# Altium footprint library Mounting_Wuerth.PcbLib: 191 footprints (part 10 of 12)
Each footprint in its own frame and in the unit in brackets; x right, y up, seen from the top. Pads: shape width x height; smd on the part's side, far side on the other; paste and mask are expansions set on the pad; w line width, h text height; cw(c..) or ccw(c..) is an arc to the next point about the centre after c.
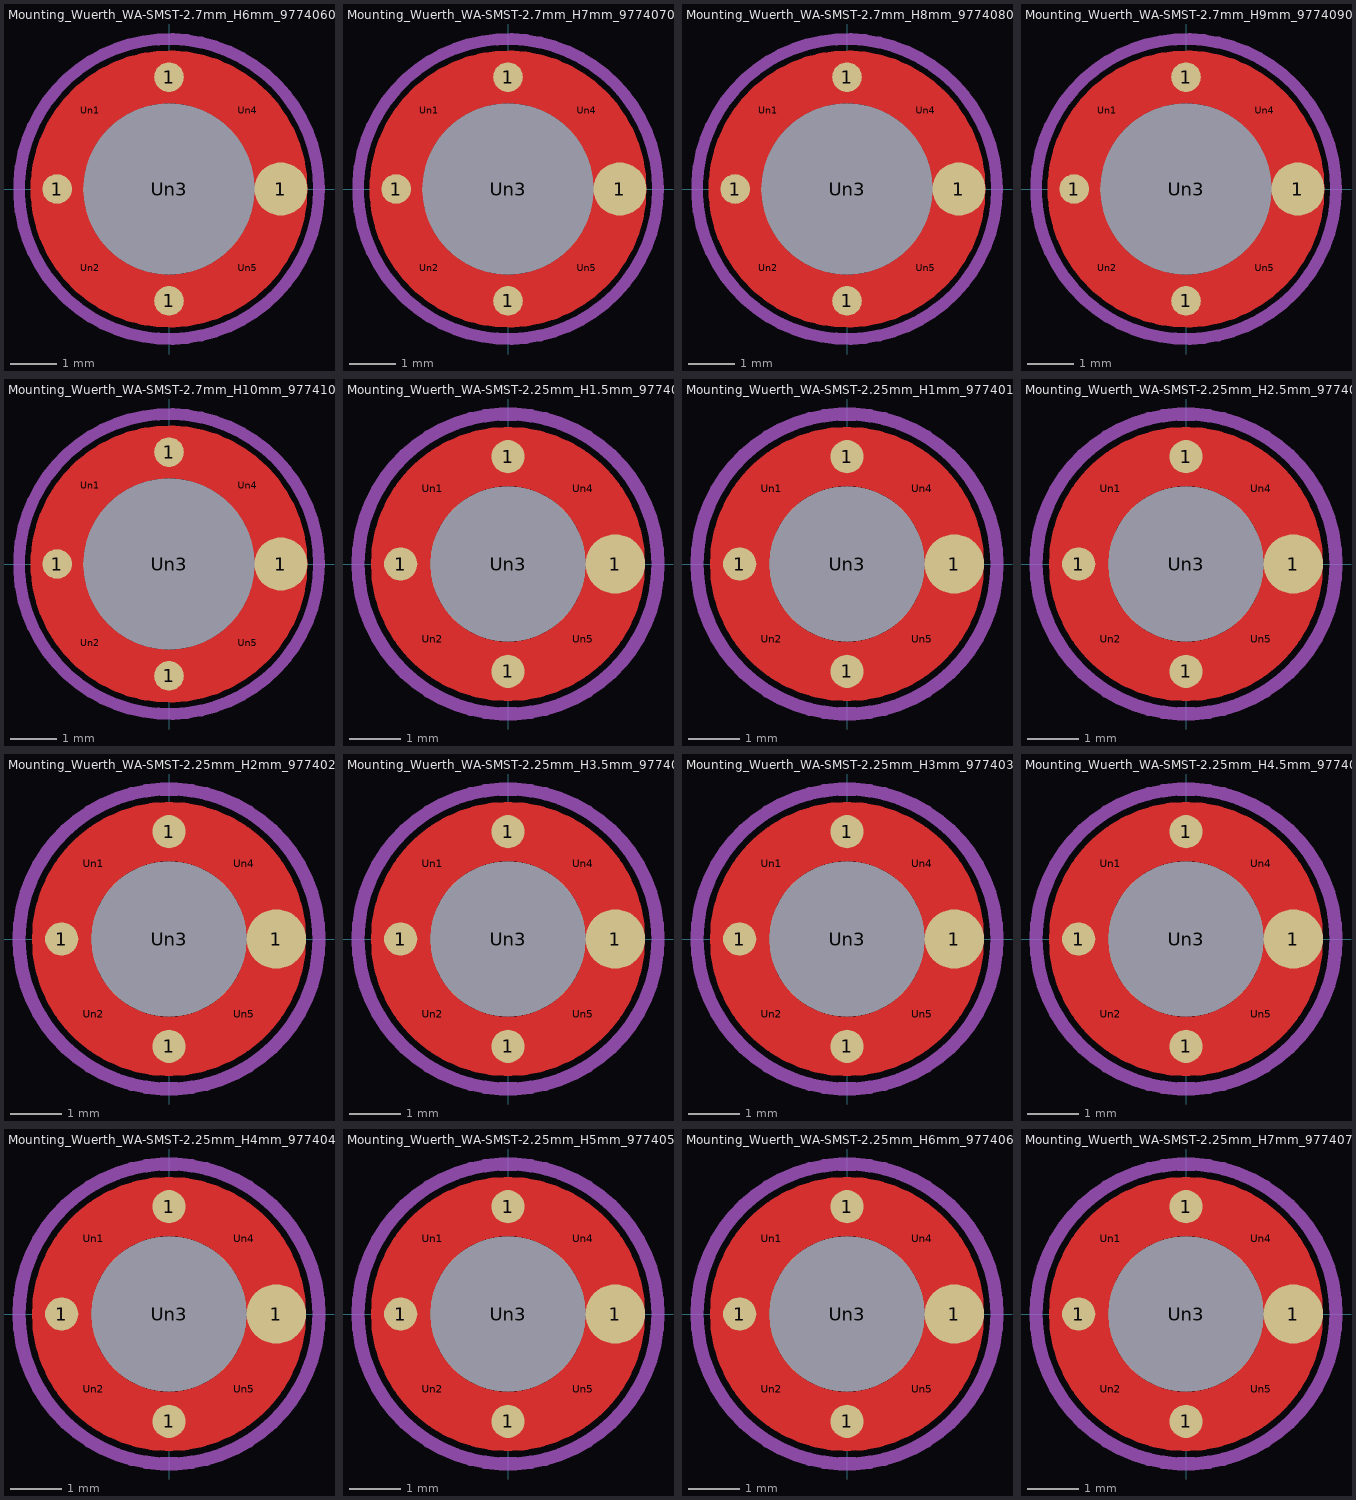
[diagram p9: the footprints below, top view; thin cyan lines are the x and y axes]

## Mounting_Wuerth_WA-SMST-2.7mm_H6mm_9774060951 [mm]
pads (9):
  round 0.642 smd: 1(-2.425,0) 1(0,-2.425) 1(0,2.425)
  round 1.15 smd: 1(2.425,0)
  round 0.51 on Top Paste: Un1(-1.704,1.704) Un2(-1.704,-1.704) Un4(1.704,1.704) Un5(1.704,-1.704)
  round 3.7 hole 3.7: Un3(0,0)
F.Cu:
  circle w1.15: c0,0 r2.425
F.Paste:
  lines w0.2: -2.788,-0.425 -1.954,-0.425 ; -2.788,0.425 -1.954,0.425 ; -0.425,-2.788 -0.425,-1.954 ; -0.425,1.954 -0.425,2.788 ; 0.425,-2.788 0.425,-1.954 ; 0.425,1.954 0.425,2.788 ; 1.954,-0.425 2.788,-0.425 ; 1.954,0.425 2.788,0.425
F.Mask:
  circle w1.15: c0,0 r2.425
Top Assembly:
  circle w0.254: c0,0 r2.55
  text "'.Designator'" at -4.047,-0.84 h1
Top Courtyard:
  circle w0.254: c0,0 r3.25
Top Designator:
  text ".Designator" at -7.768,-0.508 h1.52
3D body "Mounting_Wuerth_WA-SMST-2.7mm_H6mm_9774060951.step": height 6, standoff -1.4, extent -2.55,-2.547 2.55,2.547

## Mounting_Wuerth_WA-SMST-2.7mm_H7mm_9774070951 [mm]
pads (9):
  round 0.642 smd: 1(-2.425,0) 1(0,-2.425) 1(0,2.425)
  round 1.15 smd: 1(2.425,0)
  round 0.51 on Top Paste: Un1(-1.704,1.704) Un2(-1.704,-1.704) Un4(1.704,1.704) Un5(1.704,-1.704)
  round 3.7 hole 3.7: Un3(0,0)
F.Cu:
  circle w1.15: c0,0 r2.425
F.Paste:
  lines w0.2: -2.788,-0.425 -1.954,-0.425 ; -2.788,0.425 -1.954,0.425 ; -0.425,-2.788 -0.425,-1.954 ; -0.425,1.954 -0.425,2.788 ; 0.425,-2.788 0.425,-1.954 ; 0.425,1.954 0.425,2.788 ; 1.954,-0.425 2.788,-0.425 ; 1.954,0.425 2.788,0.425
F.Mask:
  circle w1.15: c0,0 r2.425
Top Assembly:
  circle w0.254: c0,0 r2.55
  text "'.Designator'" at -4.047,-0.84 h1
Top Courtyard:
  circle w0.254: c0,0 r3.25
Top Designator:
  text ".Designator" at -7.768,-0.508 h1.52
3D body "Mounting_Wuerth_WA-SMST-2.7mm_H7mm_9774070951.step": height 7, standoff -1.4, extent -2.55,-2.547 2.55,2.547

## Mounting_Wuerth_WA-SMST-2.7mm_H8mm_9774080951 [mm]
pads (9):
  round 0.642 smd: 1(-2.425,0) 1(0,-2.425) 1(0,2.425)
  round 1.15 smd: 1(2.425,0)
  round 0.51 on Top Paste: Un1(-1.704,1.704) Un2(-1.704,-1.704) Un4(1.704,1.704) Un5(1.704,-1.704)
  round 3.7 hole 3.7: Un3(0,0)
F.Cu:
  circle w1.15: c0,0 r2.425
F.Paste:
  lines w0.2: -2.788,-0.425 -1.954,-0.425 ; -2.788,0.425 -1.954,0.425 ; -0.425,-2.788 -0.425,-1.954 ; -0.425,1.954 -0.425,2.788 ; 0.425,-2.788 0.425,-1.954 ; 0.425,1.954 0.425,2.788 ; 1.954,-0.425 2.788,-0.425 ; 1.954,0.425 2.788,0.425
F.Mask:
  circle w1.15: c0,0 r2.425
Top Assembly:
  circle w0.254: c0,0 r2.55
  text "'.Designator'" at -4.047,-0.84 h1
Top Courtyard:
  circle w0.254: c0,0 r3.25
Top Designator:
  text ".Designator" at -7.768,-0.508 h1.52
3D body "Mounting_Wuerth_WA-SMST-2.7mm_H8mm_9774080951.step": height 8, standoff -1.4, extent -2.55,-2.547 2.55,2.547

## Mounting_Wuerth_WA-SMST-2.7mm_H9mm_9774090951 [mm]
pads (9):
  round 0.642 smd: 1(-2.425,0) 1(0,-2.425) 1(0,2.425)
  round 1.15 smd: 1(2.425,0)
  round 0.51 on Top Paste: Un1(-1.704,1.704) Un2(-1.704,-1.704) Un4(1.704,1.704) Un5(1.704,-1.704)
  round 3.7 hole 3.7: Un3(0,0)
F.Cu:
  circle w1.15: c0,0 r2.425
F.Paste:
  lines w0.2: -2.788,-0.425 -1.954,-0.425 ; -2.788,0.425 -1.954,0.425 ; -0.425,-2.788 -0.425,-1.954 ; -0.425,1.954 -0.425,2.788 ; 0.425,-2.788 0.425,-1.954 ; 0.425,1.954 0.425,2.788 ; 1.954,-0.425 2.788,-0.425 ; 1.954,0.425 2.788,0.425
F.Mask:
  circle w1.15: c0,0 r2.425
Top Assembly:
  circle w0.254: c0,0 r2.55
  text "'.Designator'" at -4.047,-0.84 h1
Top Courtyard:
  circle w0.254: c0,0 r3.25
Top Designator:
  text ".Designator" at -7.768,-0.508 h1.52
3D body "Mounting_Wuerth_WA-SMST-2.7mm_H9mm_9774090951.step": height 9, standoff -1.4, extent -2.55,-2.547 2.55,2.547

## Mounting_Wuerth_WA-SMST-2.7mm_H10mm_9774100951 [mm]
pads (9):
  round 0.642 smd: 1(-2.425,0) 1(0,-2.425) 1(0,2.425)
  round 1.15 smd: 1(2.425,0)
  round 0.51 on Top Paste: Un1(-1.704,1.704) Un2(-1.704,-1.704) Un4(1.704,1.704) Un5(1.704,-1.704)
  round 3.7 hole 3.7: Un3(0,0)
F.Cu:
  circle w1.15: c0,0 r2.425
F.Paste:
  lines w0.2: -2.788,-0.425 -1.954,-0.425 ; -2.788,0.425 -1.954,0.425 ; -0.425,-2.788 -0.425,-1.954 ; -0.425,1.954 -0.425,2.788 ; 0.425,-2.788 0.425,-1.954 ; 0.425,1.954 0.425,2.788 ; 1.954,-0.425 2.788,-0.425 ; 1.954,0.425 2.788,0.425
F.Mask:
  circle w1.15: c0,0 r2.425
Top Assembly:
  circle w0.254: c0,0 r2.55
  text "'.Designator'" at -4.047,-0.84 h1
Top Courtyard:
  circle w0.254: c0,0 r3.25
Top Designator:
  text ".Designator" at -7.768,-0.508 h1.52
3D body "Mounting_Wuerth_WA-SMST-2.7mm_H10mm_9774100951.step": height 10, standoff -1.4, extent -2.55,-2.547 2.55,2.547

## Mounting_Wuerth_WA-SMST-2.25mm_H1.5mm_9774015943 [mm]
pads (9):
  round 0.642 smd: 1(-2.075,0) 1(0,-2.075) 1(0,2.075)
  round 1.15 smd: 1(2.075,0)
  round 0.505 on Top Paste: Un1(-1.453,1.453) Un2(-1.453,-1.453) Un4(1.453,1.453) Un5(1.453,-1.453)
  round 3 hole 3: Un3(0,0)
F.Cu:
  circle w1.15: c0,0 r2.075
F.Paste:
  lines w0.2: -2.427,-0.4 -1.601,-0.4 ; -2.427,0.4 -1.601,0.4 ; -0.4,-2.427 -0.4,-1.601 ; -0.4,1.601 -0.4,2.427 ; 0.4,-2.427 0.4,-1.601 ; 0.4,1.601 0.4,2.427 ; 1.601,-0.4 2.427,-0.4 ; 1.601,0.4 2.427,0.4
F.Mask:
  circle w1.15: c0,0 r2.075
Top Assembly:
  circle w0.254: c0,0 r2.175
  text "'.Designator'" at -4.047,-0.84 h1
Top Courtyard:
  circle w0.254: c0,0 r2.9
Top Designator:
  text ".Designator" at -7.768,-0.508 h1.52
3D body "Mounting_Wuerth_WA-SMST-2.25mm_H1.5mm_9774015943.step": height 1.5, standoff -1.4, extent -2.175,-2.172 2.175,2.172

## Mounting_Wuerth_WA-SMST-2.25mm_H1mm_9774010943 [mm]
pads (9):
  round 0.642 smd: 1(-2.075,0) 1(0,-2.075) 1(0,2.075)
  round 1.15 smd: 1(2.075,0)
  round 0.505 on Top Paste: Un1(-1.453,1.453) Un2(-1.453,-1.453) Un4(1.453,1.453) Un5(1.453,-1.453)
  round 3 hole 3: Un3(0,0)
F.Cu:
  circle w1.15: c0,0 r2.075
F.Paste:
  lines w0.2: -2.427,-0.4 -1.601,-0.4 ; -2.427,0.4 -1.601,0.4 ; -0.4,-2.427 -0.4,-1.601 ; -0.4,1.601 -0.4,2.427 ; 0.4,-2.427 0.4,-1.601 ; 0.4,1.601 0.4,2.427 ; 1.601,-0.4 2.427,-0.4 ; 1.601,0.4 2.427,0.4
F.Mask:
  circle w1.15: c0,0 r2.075
Top Assembly:
  circle w0.254: c0,0 r2.175
  text "'.Designator'" at -4.047,-0.84 h1
Top Courtyard:
  circle w0.254: c0,0 r2.9
Top Designator:
  text ".Designator" at -7.768,-0.508 h1.52
3D body "Mounting_Wuerth_WA-SMST-2.25mm_H1mm_9774010943.step": height 1, standoff -1.4, extent -2.175,-2.172 2.175,2.172

## Mounting_Wuerth_WA-SMST-2.25mm_H2.5mm_9774025943 [mm]
pads (9):
  round 0.642 smd: 1(-2.075,0) 1(0,-2.075) 1(0,2.075)
  round 1.15 smd: 1(2.075,0)
  round 0.505 on Top Paste: Un1(-1.453,1.453) Un2(-1.453,-1.453) Un4(1.453,1.453) Un5(1.453,-1.453)
  round 3 hole 3: Un3(0,0)
F.Cu:
  circle w1.15: c0,0 r2.075
F.Paste:
  lines w0.2: -2.427,-0.4 -1.601,-0.4 ; -2.427,0.4 -1.601,0.4 ; -0.4,-2.427 -0.4,-1.601 ; -0.4,1.601 -0.4,2.427 ; 0.4,-2.427 0.4,-1.601 ; 0.4,1.601 0.4,2.427 ; 1.601,-0.4 2.427,-0.4 ; 1.601,0.4 2.427,0.4
F.Mask:
  circle w1.15: c0,0 r2.075
Top Assembly:
  circle w0.254: c0,0 r2.175
  text "'.Designator'" at -4.047,-0.84 h1
Top Courtyard:
  circle w0.254: c0,0 r2.9
Top Designator:
  text ".Designator" at -7.768,-0.508 h1.52
3D body "Mounting_Wuerth_WA-SMST-2.25mm_H2.5mm_9774025943.step": height 2.5, standoff -1.4, extent -2.175,-2.172 2.175,2.172

## Mounting_Wuerth_WA-SMST-2.25mm_H2mm_9774020943 [mm]
pads (9):
  round 0.642 smd: 1(-2.075,0) 1(0,-2.075) 1(0,2.075)
  round 1.15 smd: 1(2.075,0)
  round 0.505 on Top Paste: Un1(-1.453,1.453) Un2(-1.453,-1.453) Un4(1.453,1.453) Un5(1.453,-1.453)
  round 3 hole 3: Un3(0,0)
F.Cu:
  circle w1.15: c0,0 r2.075
F.Paste:
  lines w0.2: -2.427,-0.4 -1.601,-0.4 ; -2.427,0.4 -1.601,0.4 ; -0.4,-2.427 -0.4,-1.601 ; -0.4,1.601 -0.4,2.427 ; 0.4,-2.427 0.4,-1.601 ; 0.4,1.601 0.4,2.427 ; 1.601,-0.4 2.427,-0.4 ; 1.601,0.4 2.427,0.4
F.Mask:
  circle w1.15: c0,0 r2.075
Top Assembly:
  circle w0.254: c0,0 r2.175
  text "'.Designator'" at -4.047,-0.84 h1
Top Courtyard:
  circle w0.254: c0,0 r2.9
Top Designator:
  text ".Designator" at -7.768,-0.508 h1.52
3D body "Mounting_Wuerth_WA-SMST-2.25mm_H2mm_9774020943.step": height 2, standoff -1.4, extent -2.175,-2.172 2.175,2.172

## Mounting_Wuerth_WA-SMST-2.25mm_H3.5mm_9774035943 [mm]
pads (9):
  round 0.642 smd: 1(-2.075,0) 1(0,-2.075) 1(0,2.075)
  round 1.15 smd: 1(2.075,0)
  round 0.505 on Top Paste: Un1(-1.453,1.453) Un2(-1.453,-1.453) Un4(1.453,1.453) Un5(1.453,-1.453)
  round 3 hole 3: Un3(0,0)
F.Cu:
  circle w1.15: c0,0 r2.075
F.Paste:
  lines w0.2: -2.427,-0.4 -1.601,-0.4 ; -2.427,0.4 -1.601,0.4 ; -0.4,-2.427 -0.4,-1.601 ; -0.4,1.601 -0.4,2.427 ; 0.4,-2.427 0.4,-1.601 ; 0.4,1.601 0.4,2.427 ; 1.601,-0.4 2.427,-0.4 ; 1.601,0.4 2.427,0.4
F.Mask:
  circle w1.15: c0,0 r2.075
Top Assembly:
  circle w0.254: c0,0 r2.175
  text "'.Designator'" at -4.047,-0.84 h1
Top Courtyard:
  circle w0.254: c0,0 r2.9
Top Designator:
  text ".Designator" at -7.768,-0.508 h1.52
3D body "Mounting_Wuerth_WA-SMST-2.25mm_H3.5mm_9774035943.step": height 3.5, standoff -1.4, extent -2.175,-2.172 2.175,2.172

## Mounting_Wuerth_WA-SMST-2.25mm_H3mm_9774030943 [mm]
pads (9):
  round 0.642 smd: 1(-2.075,0) 1(0,-2.075) 1(0,2.075)
  round 1.15 smd: 1(2.075,0)
  round 0.505 on Top Paste: Un1(-1.453,1.453) Un2(-1.453,-1.453) Un4(1.453,1.453) Un5(1.453,-1.453)
  round 3 hole 3: Un3(0,0)
F.Cu:
  circle w1.15: c0,0 r2.075
F.Paste:
  lines w0.2: -2.427,-0.4 -1.601,-0.4 ; -2.427,0.4 -1.601,0.4 ; -0.4,-2.427 -0.4,-1.601 ; -0.4,1.601 -0.4,2.427 ; 0.4,-2.427 0.4,-1.601 ; 0.4,1.601 0.4,2.427 ; 1.601,-0.4 2.427,-0.4 ; 1.601,0.4 2.427,0.4
F.Mask:
  circle w1.15: c0,0 r2.075
Top Assembly:
  circle w0.254: c0,0 r2.175
  text "'.Designator'" at -4.047,-0.84 h1
Top Courtyard:
  circle w0.254: c0,0 r2.9
Top Designator:
  text ".Designator" at -7.768,-0.508 h1.52
3D body "Mounting_Wuerth_WA-SMST-2.25mm_H3mm_9774030943.step": height 3, standoff -1.4, extent -2.175,-2.172 2.175,2.172

## Mounting_Wuerth_WA-SMST-2.25mm_H4.5mm_9774045943 [mm]
pads (9):
  round 0.642 smd: 1(-2.075,0) 1(0,-2.075) 1(0,2.075)
  round 1.15 smd: 1(2.075,0)
  round 0.505 on Top Paste: Un1(-1.453,1.453) Un2(-1.453,-1.453) Un4(1.453,1.453) Un5(1.453,-1.453)
  round 3 hole 3: Un3(0,0)
F.Cu:
  circle w1.15: c0,0 r2.075
F.Paste:
  lines w0.2: -2.427,-0.4 -1.601,-0.4 ; -2.427,0.4 -1.601,0.4 ; -0.4,-2.427 -0.4,-1.601 ; -0.4,1.601 -0.4,2.427 ; 0.4,-2.427 0.4,-1.601 ; 0.4,1.601 0.4,2.427 ; 1.601,-0.4 2.427,-0.4 ; 1.601,0.4 2.427,0.4
F.Mask:
  circle w1.15: c0,0 r2.075
Top Assembly:
  circle w0.254: c0,0 r2.175
  text "'.Designator'" at -4.047,-0.84 h1
Top Courtyard:
  circle w0.254: c0,0 r2.9
Top Designator:
  text ".Designator" at -7.768,-0.508 h1.52
3D body "Mounting_Wuerth_WA-SMST-2.25mm_H4.5mm_9774045943.step": height 4.5, standoff -1.4, extent -2.175,-2.172 2.175,2.172

## Mounting_Wuerth_WA-SMST-2.25mm_H4mm_9774040943 [mm]
pads (9):
  round 0.642 smd: 1(-2.075,0) 1(0,-2.075) 1(0,2.075)
  round 1.15 smd: 1(2.075,0)
  round 0.505 on Top Paste: Un1(-1.453,1.453) Un2(-1.453,-1.453) Un4(1.453,1.453) Un5(1.453,-1.453)
  round 3 hole 3: Un3(0,0)
F.Cu:
  circle w1.15: c0,0 r2.075
F.Paste:
  lines w0.2: -2.427,-0.4 -1.601,-0.4 ; -2.427,0.4 -1.601,0.4 ; -0.4,-2.427 -0.4,-1.601 ; -0.4,1.601 -0.4,2.427 ; 0.4,-2.427 0.4,-1.601 ; 0.4,1.601 0.4,2.427 ; 1.601,-0.4 2.427,-0.4 ; 1.601,0.4 2.427,0.4
F.Mask:
  circle w1.15: c0,0 r2.075
Top Assembly:
  circle w0.254: c0,0 r2.175
  text "'.Designator'" at -4.047,-0.84 h1
Top Courtyard:
  circle w0.254: c0,0 r2.9
Top Designator:
  text ".Designator" at -7.768,-0.508 h1.52
3D body "Mounting_Wuerth_WA-SMST-2.25mm_H4mm_9774040943.step": height 4, standoff -1.4, extent -2.175,-2.172 2.175,2.172

## Mounting_Wuerth_WA-SMST-2.25mm_H5mm_9774050943 [mm]
pads (9):
  round 0.642 smd: 1(-2.075,0) 1(0,-2.075) 1(0,2.075)
  round 1.15 smd: 1(2.075,0)
  round 0.505 on Top Paste: Un1(-1.453,1.453) Un2(-1.453,-1.453) Un4(1.453,1.453) Un5(1.453,-1.453)
  round 3 hole 3: Un3(0,0)
F.Cu:
  circle w1.15: c0,0 r2.075
F.Paste:
  lines w0.2: -2.427,-0.4 -1.601,-0.4 ; -2.427,0.4 -1.601,0.4 ; -0.4,-2.427 -0.4,-1.601 ; -0.4,1.601 -0.4,2.427 ; 0.4,-2.427 0.4,-1.601 ; 0.4,1.601 0.4,2.427 ; 1.601,-0.4 2.427,-0.4 ; 1.601,0.4 2.427,0.4
F.Mask:
  circle w1.15: c0,0 r2.075
Top Assembly:
  circle w0.254: c0,0 r2.175
  text "'.Designator'" at -4.047,-0.84 h1
Top Courtyard:
  circle w0.254: c0,0 r2.9
Top Designator:
  text ".Designator" at -7.768,-0.508 h1.52
3D body "Mounting_Wuerth_WA-SMST-2.25mm_H5mm_9774050943.step": height 5, standoff -1.4, extent -2.175,-2.172 2.175,2.172

## Mounting_Wuerth_WA-SMST-2.25mm_H6mm_9774060943 [mm]
pads (9):
  round 0.642 smd: 1(-2.075,0) 1(0,-2.075) 1(0,2.075)
  round 1.15 smd: 1(2.075,0)
  round 0.505 on Top Paste: Un1(-1.453,1.453) Un2(-1.453,-1.453) Un4(1.453,1.453) Un5(1.453,-1.453)
  round 3 hole 3: Un3(0,0)
F.Cu:
  circle w1.15: c0,0 r2.075
F.Paste:
  lines w0.2: -2.427,-0.4 -1.601,-0.4 ; -2.427,0.4 -1.601,0.4 ; -0.4,-2.427 -0.4,-1.601 ; -0.4,1.601 -0.4,2.427 ; 0.4,-2.427 0.4,-1.601 ; 0.4,1.601 0.4,2.427 ; 1.601,-0.4 2.427,-0.4 ; 1.601,0.4 2.427,0.4
F.Mask:
  circle w1.15: c0,0 r2.075
Top Assembly:
  circle w0.254: c0,0 r2.175
  text "'.Designator'" at -4.047,-0.84 h1
Top Courtyard:
  circle w0.254: c0,0 r2.9
Top Designator:
  text ".Designator" at -7.768,-0.508 h1.52
3D body "Mounting_Wuerth_WA-SMST-2.25mm_H6mm_9774060943.step": height 6, standoff -1.4, extent -2.175,-2.172 2.175,2.172

## Mounting_Wuerth_WA-SMST-2.25mm_H7mm_9774070943 [mm]
pads (9):
  round 0.642 smd: 1(-2.075,0) 1(0,-2.075) 1(0,2.075)
  round 1.15 smd: 1(2.075,0)
  round 0.505 on Top Paste: Un1(-1.453,1.453) Un2(-1.453,-1.453) Un4(1.453,1.453) Un5(1.453,-1.453)
  round 3 hole 3: Un3(0,0)
F.Cu:
  circle w1.15: c0,0 r2.075
F.Paste:
  lines w0.2: -2.427,-0.4 -1.601,-0.4 ; -2.427,0.4 -1.601,0.4 ; -0.4,-2.427 -0.4,-1.601 ; -0.4,1.601 -0.4,2.427 ; 0.4,-2.427 0.4,-1.601 ; 0.4,1.601 0.4,2.427 ; 1.601,-0.4 2.427,-0.4 ; 1.601,0.4 2.427,0.4
F.Mask:
  circle w1.15: c0,0 r2.075
Top Assembly:
  circle w0.254: c0,0 r2.175
  text "'.Designator'" at -4.047,-0.84 h1
Top Courtyard:
  circle w0.254: c0,0 r2.9
Top Designator:
  text ".Designator" at -7.768,-0.508 h1.52
3D body "Mounting_Wuerth_WA-SMST-2.25mm_H7mm_9774070943.step": height 7, standoff -1.4, extent -2.175,-2.172 2.175,2.172